# Altium integrated library receiver.IntLib: 16 symbols
Pins are listed as number, name and electrical type; pins without a type are passive.

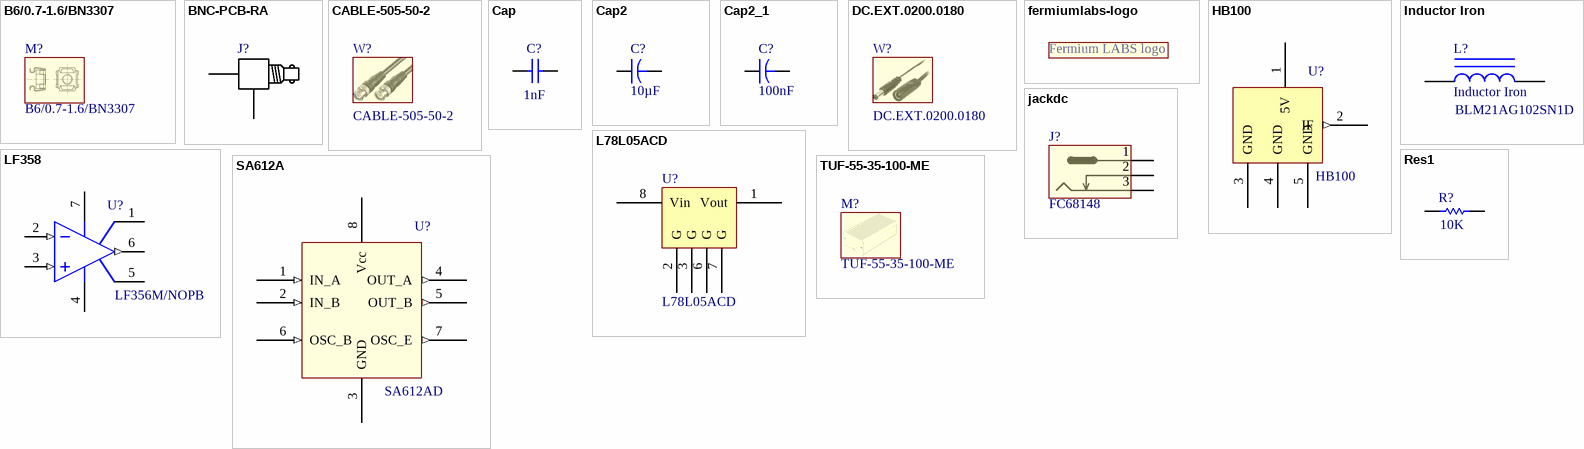
[diagram p0: symbols B6/0.7-1.6/BN3307 to TUF-55-35-100-ME]

## B6/0.7-1.6/BN3307
designator M?  (mechanical)
Supplier 1: TME; Supplier Part Number 1: B6/0.7-1.6/BN3307

## BNC-PCB-RA
designator J?
connector bnc; Manufacturer: TE CONNECTIVITY; Manufacturer Part Number: 1-1337543-0; Unit: pcs; SuppliedAmount: 0; MinAmount: 1; Connector: socket; Connector variant: insulated; Spatial orientation: angled 90°; Wave impedance: 50Ω; Electrical mounting: THT; Mechanical mounting: on PCBs; Insulator material: polyester; Pads: 4 THT; Supplier 1: TME; Supplier Part Number 1: 1-1337543-0; Category: BNC connectors; Stock 1: 44; Pricing 1: 1=1.22, 25=1.1, 100=0.98, 1000=0.86 (EUR); Weight: 13.22; Multiples: 1; Connector type: BNC; Contact plating: gold plated; Price Type: NET; ComponentLink1URL: http://static.tme.eu/products_pics/6/3/2/63240353f8a8790dbe8f7bd93b014c1a/378606.jpg; ComponentLink1Description: http://static.tme.eu/products_pics/6/3/2/63240353f8a8790dbe8f7bd93b014c1a/378606.jpg
footprint BNC-RA
pins: 1, 2 gnd, A, B

## CABLE-505-50-2
designator W?  (mechanical)
Supplier 1: TME; Supplier Part Number 1: CABLE-505-50-2

## Cap
designator C?  value 1nF
Capacitor; Manufacturer: Samsung; Manufacturer Part Number: CL21B102KCANNNC; Material: Ceramic; Tolerance: 10%; Dielectric: X7R; Voltage Rating: 100V; Supplier 1: TME; Supplier Part Number 1: CL21B102KCANNNC; Stock 1: 40500; Pricing 1: 100=0.0073, 300=0.0056, 1000=0.0044, 4000=0.0032, 20000=0.0031 (USD); Mount: Surface Mount; Case/Package: 0805; Case Code (Metric): 2012; Case Code (Imperial): 0805; Min Operating Temperature: -55°C; Max Operating Temperature: 125°C; Capacitance: 1nF; Package Quantity: 1; Packaging: Tape and Reel; Voltage: 100V; Voltage Rating (DC): 100V; Length: 2mm; Height: 0.65mm; Depth: 1.25mm; Width: 0.049inch; Thickness: 0.03inch; Radiation Hardening: No; Lead Free: Lead Free; ComponentLink1URL: https://datasheet.ciiva.com/26878/getdatasheetpartid-643098-26878049.pdf; ComponentLink1Description: https://datasheet.ciiva.com/26878/getdatasheetpartid-643098-26878049.pdf; ComponentLink2URL: https://datasheet.ciiva.com/29199/456063-da-01-en-vs-kondensator-0805-29199067.pdf; ComponentLink2Description: https://datasheet.ciiva.com/29199/456063-da-01-en-vs-kondensator-0805-29199067.pdf; ComponentLink3URL: https://datasheet.ciiva.com/26310/mlcc-catalogdownload2013-eng-26310183.pdf; ComponentLink3Description: https://datasheet.ciiva.com/26310/mlcc-catalogdownload2013-eng-26310183.pdf
footprint RAD-0.3 (Radial Cap, Thru-Hole; 2 Leads; 0.3 in Pin Spacing)
simulation model CAP (Capacitor)
signal-integrity model Cap
footprint CAP 0805/2012 (Chip Capacitor, 2-Leads, Body 2.00x1.20mm, IPC Medium Density)
pins: 1, 2

## Cap2
designator C?  Capacitance: 10µF
Capacitor; Manufacturer: SAMSUNG; Manufacturer Part Number: CL31A106KAHNNNE; Unit: pcs; SuppliedAmount: 0; MinAmount: 100; Capacitor type: ceramic; Capacitor kind: MLCC; Operating voltage: 25V; Dielectric: X5R; Tolerance: ±10%; Case - inch: 1206; Case - mm: 3216; Pads: 2 SMD; Published: 23-Sep-2002; PackageReference: CAPR5-4X5; Publisher: Altium Limited; PackageDescription: 1206; Supplier 1: TME; Supplier Part Number 1: CL31A106KAHNNNE; Category: 1206 MLCC SMD Capacitors; Stock 1: 279700; Pricing 1: 100=0.0248, 300=0.0203, 1000=0.0167, 2000=0.0131, 10000=0.0127 (EUR); Weight: 0.061; Multiples: 100; Mounting: SMD; Operating temperature: -55...85°C; Price Type: NET; ComponentLink1URL: http://static.tme.eu/products_pics/b/e/9/be9e0dd298dcf4979ea1dd3d226e0bfa/58780.jpg; ComponentLink1Description: http://static.tme.eu/products_pics/b/e/9/be9e0dd298dcf4979ea1dd3d226e0bfa/58780.jpg
simulation model CAP (Capacitor)
signal-integrity model Cap
footprint 1206C-GENERIC
footprint CAP 1206/3216 (Chip Capacitor, 2-Leads, Body 3.25x1.60mm, IPC Medium Density)
pins: 1, 2

## Cap2_1
designator C?  Capacitance: 100nF
Capacitor; Manufacturer: YAGEO; Manufacturer Part Number: CC0805JRX7R9BB104; Unit: pcs; SuppliedAmount: 0; MinAmount: 100; Capacitor type: ceramic; Capacitor kind: MLCC; Operating voltage: 50V; Dielectric: X7R; Tolerance: ±5%; Case - inch: 0805; Case - mm: 2012; Pads: 2 SMD; Supplier 1: TME; Supplier Part Number 1: CC0805JRX7R9104; Category: 0805 MLCC SMD Capacitors; Stock 1: 89911; Pricing 1: 100=0.00613, 300=0.00464, 1000=0.00342, 4000=0.00284, 20000=0.00273 (EUR); Weight: 0.042; Multiples: 100; Mounting: SMD; Price Type: NET; ComponentLink1URL: http://static.tme.eu/products_pics/d/b/b/dbbd93eaf25225110ca26eb66da77328/58538.jpg; ComponentLink1Description: http://static.tme.eu/products_pics/d/b/b/dbbd93eaf25225110ca26eb66da77328/58538.jpg
simulation model CAP (Capacitor)
signal-integrity model Cap
footprint 0805C-GENERIC (CAPACITOR 0805)
footprint CAP 0805/2012 (Chip Capacitor, 2-Leads, Body 2.00x1.20mm, IPC Medium Density)
pins: 1, 2

## DC.EXT.0200.0180
designator W?  (mechanical)
Supplier 1: TME; Supplier Part Number 1: DC.EXT.0200.0180

## fermiumlabs-logo
designator XX??  (value not drawn)  (no BOM)
footprint frm-small
footprint frm-med
text: Fermium LABS logo

## HB100
designator U?
Manufacturer: China unspecified; Manufacturer Part Number: HB100; Supplier 1: Alibaba; Supplier Part Number 1: HB100
footprint HB100-buried
pins: 1 5V (power), 2 IF (out), 3 GND (power), 4 GND (power), 5 GND (power)

## Inductor Iron
designator L?  Supplier Part Number 1: BLM21AG102SN1D
Magnetic-Core Inductor; Manufacturer: Murata; Core Material: Ferrite; Material: Steel,Ferrite; Impedance: 1KR; Tolerance: 25%; Max DC Current: 200mA; DC Resistance (DCR): 280mR; Max Current Rating: 600mA; Current Rating: 500mA; Test Frequency: 100MHz; Number of Lines: 1; Shielding: Unshielded; Supplier 1: TME; Manufacturer Part Number: BLM21AG102SN1D; Stock 1: 53975; Pricing 1: 25=0.068, 100=0.0551, 1000=0.0451, 4000=0.0397 (USD); Case/Package: 0805; Number of Pins: 2; Weight: 0.000194oz; Case Code (Metric): 2012; Case Code (Imperial): 0805; Min Operating Temperature: -55°C; Max Operating Temperature: 125°C; Package Quantity: 1; Packaging: Tape and Reel; Termination: SMD/SMT; DC Current: 200mA; Military Standard: Not; Frequency: 100MHz; Number of Circuits: 1; Length: 2mm; Height: 0.85mm; Depth: 1.25mm; Width: 1.25mm; Radiation Hardening: No; REACH SVHC: No SVHC; Lead Free: Lead Free; ComponentLink1URL: https://datasheet.ciiva.com/19454/1845136-19454717.pdf; ComponentLink1Description: https://datasheet.ciiva.com/19454/1845136-19454717.pdf; ComponentLink2URL: https://datasheet.ciiva.com/18093/getdatasheetpartid-139643-18093010.pdf; ComponentLink2Description: https://datasheet.ciiva.com/18093/getdatasheetpartid-139643-18093010.pdf; ComponentLink3URL: https://datasheet.ciiva.com/29347/442432-da-01-en-chip-drossel-0805-1000r-200ma-2-0x1-25mm-29347996.pdf; ComponentLink3Description: https://datasheet.ciiva.com/29347/442432-da-01-en-chip-drossel-0805-1000r-200ma-2-0x1-25mm-29347996.pdf; ComponentLink4URL: https://datasheet.ciiva.com/41449/001172322-da-01-en-drossel-0805-1000r-2-0x1-25mm-4000st-41449636.pdf; ComponentLink4Description: https://datasheet.ciiva.com/41449/001172322-da-01-en-drossel-0805-1000r-2-0x1-25mm-4000st-41449636.pdf; ComponentLink5URL: https://datasheet.ciiva.com/6212/l0110s0100blm21a-6212318.pdf; ComponentLink5Description: https://datasheet.ciiva.com/6212/l0110s0100blm21a-6212318.pdf; ComponentLink6URL: https://datasheet.ciiva.com/16286/l0110s0100blm21a-16286461.pdf; ComponentLink6Description: https://datasheet.ciiva.com/16286/l0110s0100blm21a-16286461.pdf; ComponentLink7URL: https://datasheet.ciiva.com/8021/l0110s0100blm21a-8021550.pdf; ComponentLink7Description: https://datasheet.ciiva.com/8021/l0110s0100blm21a-8021550.pdf; ComponentLink8URL: https://datasheet.ciiva.com/8021/l0110s0100blm21a-8021548.pdf; ComponentLink8Description: https://datasheet.ciiva.com/8021/l0110s0100blm21a-8021548.pdf; ComponentLink9URL: https://datasheet.ciiva.com/3081/l0110s0100blm21a-3081640.pdf; ComponentLink9Description: https://datasheet.ciiva.com/3081/l0110s0100blm21a-3081640.pdf; ComponentLink10URL: https://datasheet.ciiva.com/25903/l0110s0100blm21a-25903493.pdf; ComponentLink10Description: https://datasheet.ciiva.com/25903/l0110s0100blm21a-25903493.pdf; ComponentLink11URL: https://datasheet.ciiva.com/3082/l0110s0100blm21a-3082728.pdf; ComponentLink11Description: https://datasheet.ciiva.com/3082/l0110s0100blm21a-3082728.pdf; ComponentLink12URL: https://datasheet.ciiva.com/6212/l0110s0100blm21a-6212347.pdf; ComponentLink12Description: https://datasheet.ciiva.com/6212/l0110s0100blm21a-6212347.pdf; ComponentLink13URL: https://datasheet.ciiva.com/6212/l0110s0100blm21a-6212345.pdf; ComponentLink13Description: https://datasheet.ciiva.com/6212/l0110s0100blm21a-6212345.pdf
footprint AXIAL-0.9 (Axial Device, Thru-Hole; 2 Leads; 0.9 in Pin Spacing)
simulation model INDUCTOR (Inductor)
signal-integrity model Inductor Iron
footprint FER 0805/2012 (Chip Ferrite, 2-Leads, Body 2.00x1.20mm, IPC Medium Density)
pins: 1, 2

## jackdc
designator J?  Supplier Part Number 1: FC68148  (no BOM)
Manufacturer: CLIFF; Manufacturer Part Number: DC-10A FC68148; Unit: pcs; SuppliedAmount: 0; MinAmount: 1; Connector: socket; Connector type: DC supply; Contact size: 5,5/2,1mm; Plug outside diameter: 5.5mm; Plug inside diameter: 2.1mm; Connector variant: with on/off switch; Electrical mounting: soldering; Rated current: 5A; Rated voltage: 12V DC; Spatial orientation: angled 90°; Pads: 3 THT; Category: DC power connectors; Weight: 1.733; Multiples: 1; Package type: in bulk; Price Type: NET; ComponentLink1URL: http://static.tme.eu/products_pics/f/8/e/f8eb2e1bea4ffe6692f5958f8ef9edd4/323250.jpg; ComponentLink1Description: http://static.tme.eu/products_pics/f/8/e/f8eb2e1bea4ffe6692f5958f8ef9edd4/323250.jpg; Supplier 1: TME
footprint dc-jack
pins: 1, 2, 3

## L78L05ACD
designator U?
Supplier 1: TME; Supplier Part Number 1: L78L05ACD
footprint ST SOIC-8N (SOIC, 8-Leads, Body 4.90x3.90mm, Pitch 1.27mm, IPC Medium Density)
pins: 1 Vout (power), 2 G (power), 3 G (power), 6 G (power), 7 G (power), 8 Vin (power)

## LF358
designator U?  Supplier Part Number 1: LF356M/NOPB
Supplier 1: TME; Supplier 2: Mouser; Supplier Part Number 2: 926-LF356M; Supplier 3: Farnell; Supplier Part Number 3: 9486992
footprint TI SOIC-8 D (SOP, 8-Leads, Body 4.90x3.90mm, Pitch 1.27mm, IPC Medium Density)
pins: 1 CXA, 2 IN- (in), 3 IN+ (in), 4 VDD- (power), 5, 6 OUT (out), 7 VDD+ (power)

## Res1
designator R?  value 10K  (hidden comment: Res1)
Resistor; Manufacturer: Royal Electronic Factory; Manufacturer Part Number: 0805S8J0103T5E; Supplier 1: TME; Supplier Part Number 1: SMD0805-10K; Stock 1: 1600500; Pricing 1: 100=0.0065, 1000=0.0023, 5000=0.0008, 15000=0.0008, 50000=0.0008 (USD)
footprint AXIAL-0.3 (Axial Device, Thru-Hole; 2 Leads; 0.3 in Pin Spacing)
simulation model RESISTOR (Resistor)
signal-integrity model Res
footprint RES 0805/2012 (Chip Resistor, 2-Leads, Body 2.00x1.25mm, IPC Medium Density)
pins: 1, 2

## SA612A
designator U?  Supplier Part Number 1: SA612AD  (hidden comment: SA612A)
Supplier 1: TME; Supplier 2: Mouser; Supplier Part Number 2: 771-SA612AD01112
footprint TI SOIC-8 D (SOP, 8-Leads, Body 4.90x3.90mm, Pitch 1.27mm, IPC Medium Density)
pins: 1 IN_A (in), 2 IN_B (in), 3 GND (power), 4 OUT_A (out), 5 OUT_B (out), 6 OSC_B (in), 7 OSC_E (out), 8 Vcc (power)

## TUF-55-35-100-ME
designator M?  (mechanical)
Supplier 1: TME; Supplier Part Number 1: TUF-55-35-100-ME